# EAGLE library part M12_8PIN_CODE_A (library VIPR_Components)
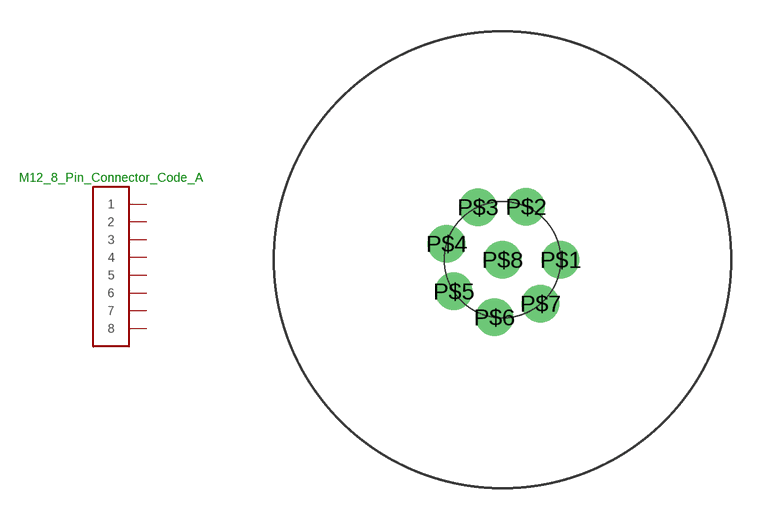
[diagram p4: symbol with the pads of M12_8PIN_CODE_A; footprint M12_8PIN_CODE_A]

Designator prefix -

## M12_8PIN_CODE_A  [M12_8PIN_CODE_A]
P$1  P$1
P$2  P$2
P$3  P$3
P$4  P$4
P$5  P$5
P$6  P$6
P$7  P$7
P$8  P$8

## Footprint M12_8PIN_CODE_A (pad centres in mm)
drill 1.18: P$1 2.75,0; P$2 1.119,2.512; P$3 -1.162,2.492; P$4 -2.643,0.758; P$5 -2.306,-1.498; P$6 -0.383,-2.723; P$7 1.804,-2.075; P$8 0,0